# Altium schematic symbol library Gan_cuk converter (2).SchLib: 22 symbols
Pins are listed as number, name and electrical type; pins without a type are passive.

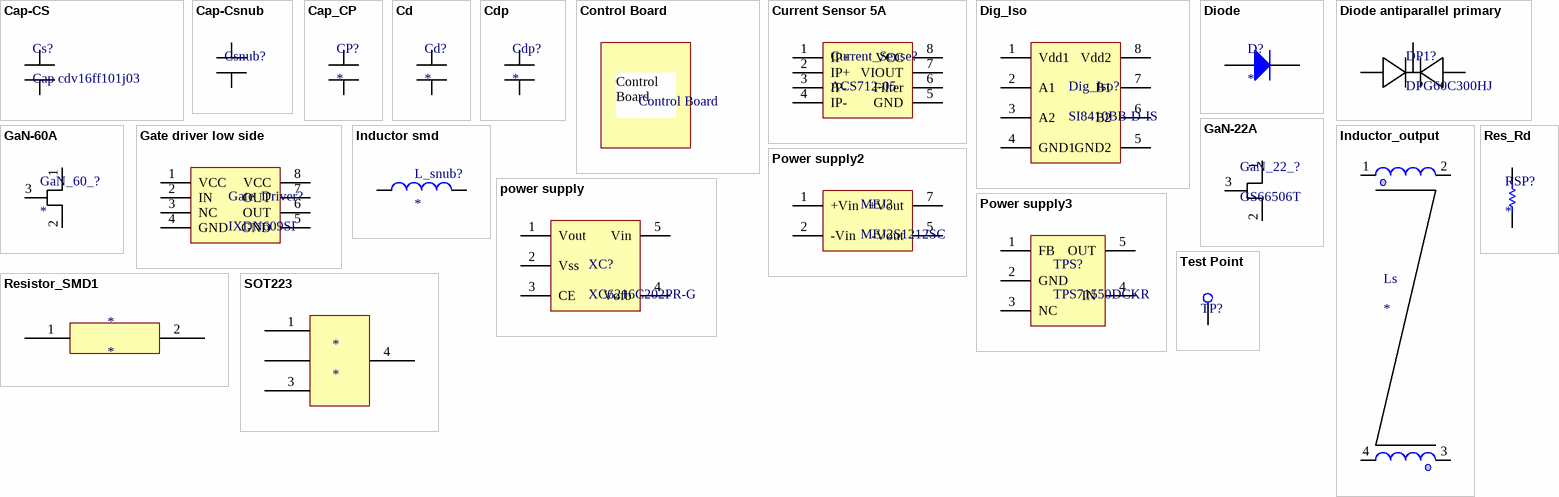
[diagram p0: symbols Cap-CS to Test Point]

## Cap-CS
designator Cs?, comment Cap cdv16ff101j03
footprint Cap-Cs
pins: 1, 2

## Cap-Csnub
designator Csnub?, comment Cap DPPM10S22K-F  (value not drawn)
footprint Cap-Csnub
pins: 1, 2

## Cap_CP
designator CP?
footprint Cap_cp
pins: 1, 2

## Cd
designator Cd?
footprint Cd
pins: 1, 2

## Cdp
designator Cdp?
footprint Cdp
pins: 1, 2

## Control Board
designator ?
footprint Control Board

## Current Sensor 5A
designator Current_Sense?, comment ACS712-05
footprint SOIC-8
pins: 1 IP+, 2 IP+, 3 IP-, 4 IP-, 5 GND, 6 Filter, 7 VIOUT, 8 VCC

## Dig_Iso
designator Dig_Iso?, comment SI8410BB-D-IS
footprint SOIC-8
pins: 1 Vdd1, 2 A1, 3 A2, 4 GND1, 5 GND2, 6 B2, 7 B1, 8 Vdd2

## Diode
designator D?
VS-4ESH02HM3
footprint TO-277A (Diode)
pins: 1 A, 2 K

## Diode antiparallel primary
designator DP1?, comment DPG60C300HJ
footprint Diode antiparallel
pins: 1, 2, 3

## GaN-22A
designator GaN_22_?, comment GS66506T
footprint GS66506t with heat sink
pins: 1, 2, 3

## GaN-60A
designator GaN_60_?
footprint GS66560T with heat dissipation
pins: 1, 2, 3

## Gate driver low side
designator Gate_Driver?, comment IXDN609SI
footprint Gate driver _low side
pins: 1 VCC, 2 IN, 3 NC, 4 GND, 5 GND, 6 OUT, 7 OUT, 8 VCC

## Inductor smd
designator L_snub?
footprint Inductor surface mount
pins: 1 +, 2 -

## Inductor_output
designator Ls
footprint Inductor output
pins: 1 +, 2 -, 3 -, 4 +

## power supply
designator XC?, comment XC6216C202PR-G
footprint SOT-89-5
pins: 1 Vout, 2 Vss, 3 CE, 4 Vofb, 5 Vin

## Power supply2
designator MEJ?, comment MEJ2S1212SC
footprint MEJ2
pins: 1 +Vin, 2 -Vin, 5 -Vout, 7 +Vout

## Power supply3
designator TPS?, comment TPS71550DCKR
footprint power supply tps
pins: 1 FB, 2 GND, 3 NC, 4 IN, 5 OUT

## Res_Rd
designator RSP?
footprint Res-RS
pins: 1, 2

## Resistor_SMD1
designator *
footprint Resistor_SMD1 (RES SMD 392 OHM 1% 1/2W 1206)
pins: 1, 2

## SOT223
designator *
footprint SOT-223
pins: 1, 2, 3, 4

## Test Point
designator TP?  (value not drawn)
footprint Test Point
pins: 1 TP?